# Altium footprint library 杂项库.PcbLib: 585 footprints (part 35 of 37)
Each footprint in its own frame and in the unit in brackets; x right, y up, seen from the top. Pads: shape width x height; smd on the part's side, far side on the other; paste and mask are expansions set on the pad; w line width, h text height; cw(c..) or ccw(c..) is an arc to the next point about the centre after c.
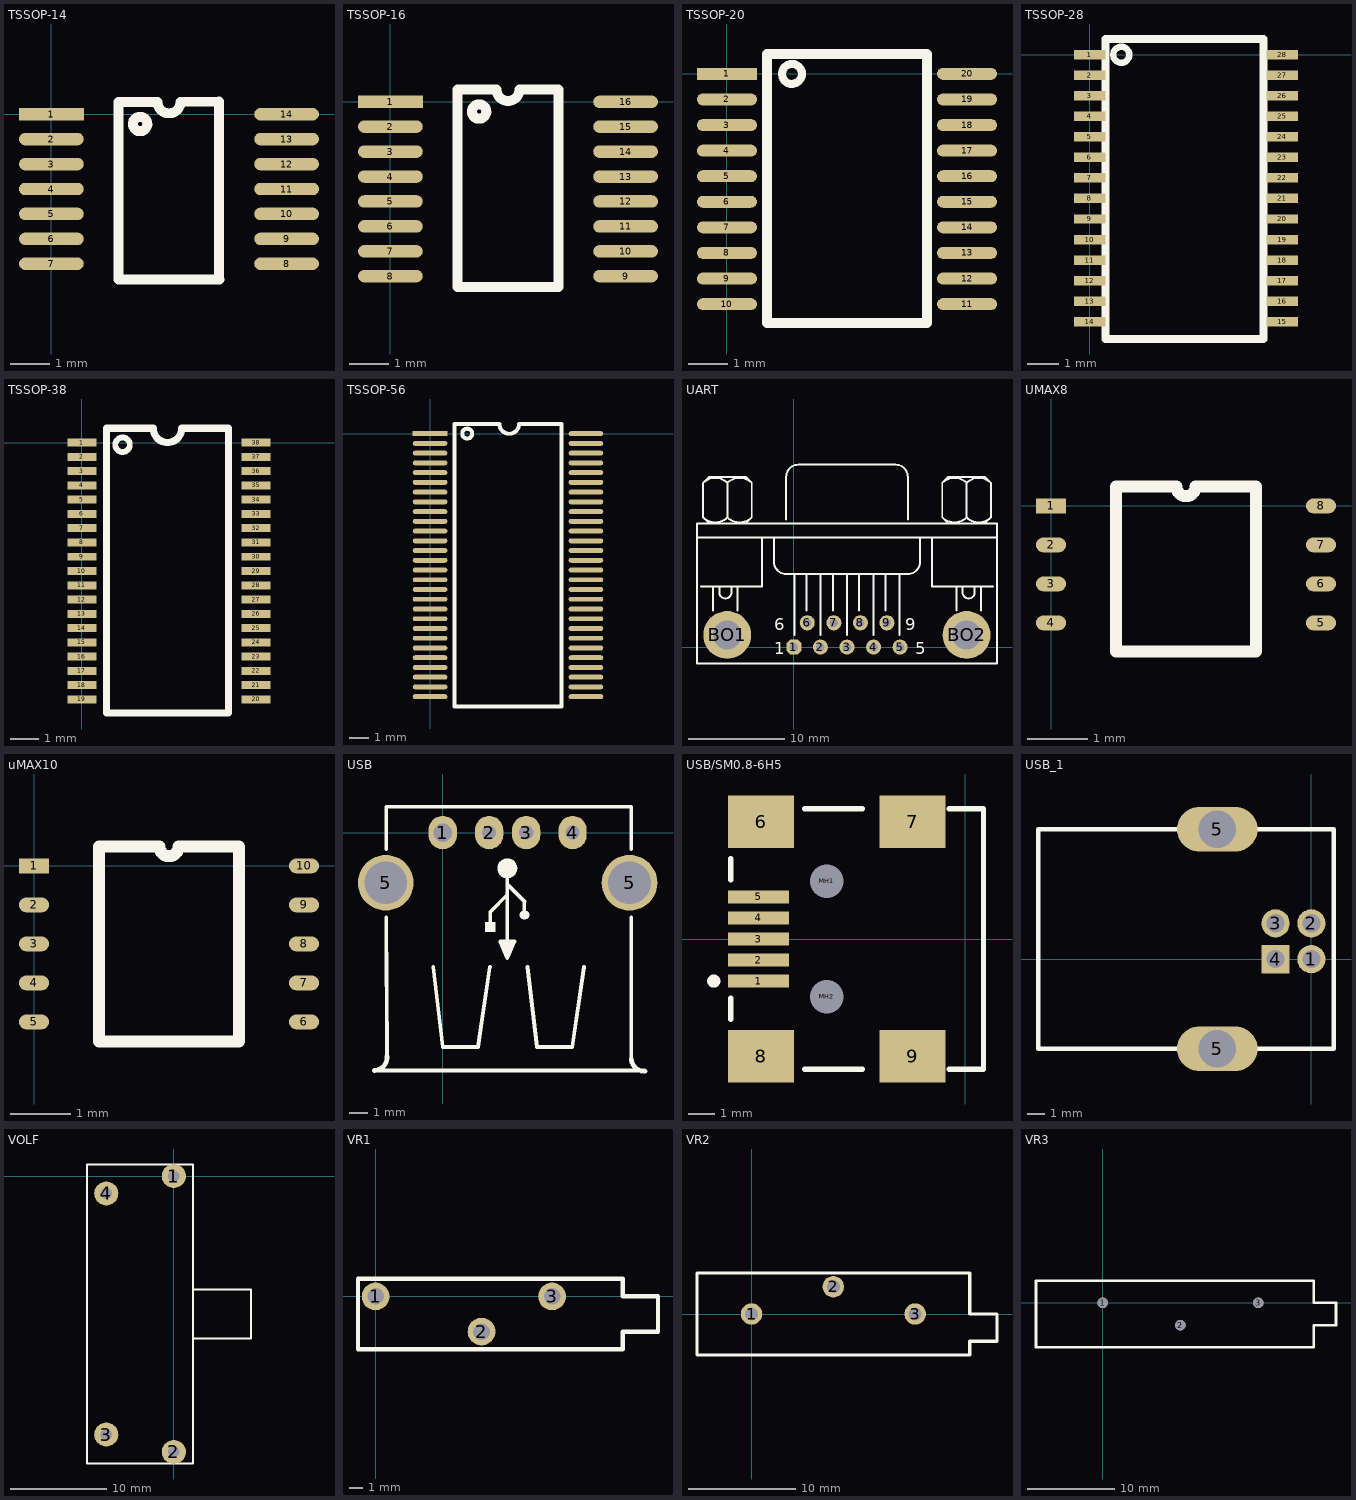
[diagram p34: the footprints below, top view; thin cyan lines are the x and y axes]

## TSSOP-14 [mil]
pads (14):
  rect 65x12.5 smd: 1(0,0)
  oval 65x12.5 smd: 2(0,-25) 3(0,-50) 4(0,-75) 5(0,-100) 6(0,-125) 7(0,-150) 8(236,-150) 9(236,-125) 10(236,-100) 11(236,-75) 12(236,-50) 13(236,-25) 14(236,0)
Top Overlay:
  lines w10: 89,-17 cw(c89,-9.79) 90.02,-16.93 ; 168,-166 168,13 129.54,12.5 cw(c118,12.5) 106.46,12.5 67.5,12.5 67.5,-166 168.5,-166

## TSSOP-16 [mil]
pads (16):
  rect 65x12.5 smd: 1(0,0)
  oval 65x12.5 smd: 2(0,-25) 3(0,-50) 4(0,-75) 5(0,-100) 6(0,-125) 7(0,-150) 8(0,-175) 9(236,-175) 10(236,-150) 11(236,-125) 12(236,-100) 13(236,-75) 14(236,-50) 15(236,-25) 16(236,0)
Top Overlay:
  lines w10: 89,-17 cw(c89,-9.79) 90.02,-16.93 ; 67.5,-186 168.5,-186 168.5,12.5 129.54,12.5 cw(c118,12.5) 106.46,12.5 67.5,12.5 67.5,-186

## TSSOP-20 [mil]
pads (20):
  rect 60x12 smd: 1(0,0)
  oval 60x12 smd: 2(0,-25.59) 3(0,-51.18) 4(0,-76.77) 5(0,-102.36) 6(0,-127.95) 7(0,-153.54) 8(0,-179.13) 9(0,-204.72) 10(0,-230.31) 11(240.16,-230.31) 12(240.16,-204.72) 13(240.16,-179.13) 14(240.16,-153.54) 15(240.16,-127.95) 16(240.16,-102.36) 17(240.16,-76.77) 18(240.16,-51.18) 19(240.16,-25.59) 20(240.16,0)
Top Overlay:
  circle w8: c65,0 r10
  lines w10: 40,-249.02 40,20 200,20 200,-249.02 40,-249.02

## TSSOP-28 [mm]
pads (28):
  rect 1x0.3 smd: 1(0,0) 2(0,-0.65) 3(0,-1.3) 4(0,-1.95) 5(0,-2.6) 6(0,-3.25) 7(0,-3.9) 8(0,-4.55) 9(0,-5.2) 10(0,-5.85) 11(0,-6.5) 12(0,-7.15) 13(0,-7.8) 14(0,-8.45) 15(6.1,-8.45) 16(6.1,-7.8) 17(6.1,-7.15) 18(6.1,-6.5) 19(6.1,-5.85) 20(6.1,-5.2) 21(6.1,-4.55) 22(6.1,-3.9) 23(6.1,-3.25) 24(6.1,-2.6) 25(6.1,-1.95) 26(6.1,-1.3) 27(6.1,-0.65) 28(6.1,0)
Top Overlay:
  circle w0.203: c1,0 r0.254
  lines w0.254: 0.5,-9 5.5,-9 5.5,0.5 0.5,0.5 0.5,-9

## TSSOP-38 [mil]
pads (38):
  rect 40x11 smd: 1(0,0) 2(0,-19.68) 3(0,-39.37) 4(0,-59.05) 5(0,-78.74) 6(0,-98.42) 7(0,-118.11) 8(0,-137.79) 9(0,-157.48) 10(0,-177.16) 11(0,-196.85) 12(0,-216.53) 13(0,-236.22) 14(0,-255.91) 15(0,-275.59) 16(0,-295.28) 17(0,-314.96) 18(0,-334.65) 19(0,-354.33) 20(240.16,-354.33) 21(240.16,-334.65) 22(240.16,-314.96) 23(240.16,-295.28) 24(240.16,-275.59) 25(240.16,-255.91) 26(240.16,-236.22) 27(240.16,-216.53) 28(240.16,-196.85) 29(240.16,-177.16) 30(240.16,-157.48) 31(240.16,-137.79) 32(240.16,-118.11) 33(240.16,-98.42) 34(240.16,-78.74) 35(240.16,-59.05) 36(240.16,-39.37) 37(240.16,-19.68) 38(240.16,0)
Top Overlay:
  circle w8: c56,-3 r10
  lines w10: 34,-373.03 202,-373.03 202,19.68 137.69,19.68 cw(c118,19.68) 98.31,19.69 34,19.68 34,-373.03

## TSSOP-56 [mil]
pads (56):
  rect 70x10 smd: 1(0,0)
  oval 70x10 smd: 2(0,-19.68) 3(0,-39.37) 4(0,-59.05) 5(0,-78.74) 6(0,-98.42) 7(0,-118.11) 8(0,-137.79) 9(0,-157.48) 10(0,-177.16) 11(0,-196.85) 12(0,-216.53) 13(0,-236.22) 14(0,-255.91) 15(0,-275.59) 16(0,-295.28) 17(0,-314.96) 18(0,-334.65) 19(0,-354.33) 20(0,-374.02) 21(0,-393.7) 22(0,-413.39) 23(0,-433.07) 24(0,-452.76) 25(0,-472.44) 26(0,-492.13) 27(0,-511.81) 28(0,-531.5) 29(314.96,-531.5) 30(314.96,-511.81) 31(314.96,-492.13) 32(314.96,-472.44) 33(314.96,-452.76) 34(314.96,-433.07) 35(314.96,-413.39) 36(314.96,-393.7) 37(314.96,-374.02) 38(314.96,-354.33) 39(314.96,-334.65) 40(314.96,-314.96) 41(314.96,-295.28) 42(314.96,-275.59) 43(314.96,-255.91) 44(314.96,-236.22) 45(314.96,-216.53) 46(314.96,-196.85) 47(314.96,-177.16) 48(314.96,-157.48) 49(314.96,-137.79) 50(314.96,-118.11) 51(314.96,-98.42) 52(314.96,-78.74) 53(314.96,-59.05) 54(314.96,-39.37) 55(314.96,-19.68) 56(314.96,0)
Top Overlay:
  circle w8: c75,0 r10
  lines w8: 49.21,-551.18 265.75,-551.18 265.75,19.68 180,19.68 cw(c160,19.68) 140,19.69 49.21,19.68 49.21,-551.18

## UART [mil]
pads (11):
  oct 62x62 hole 35: 1(0,0)
  round 62 hole 35: 2(109.17,0) 3(218.33,0) 4(327.5,0) 5(436.67,0) 6(55,100) 7(164.17,100) 8(273.33,100) 9(382.5,100)
  round 196.67 hole 118.33: BO1(-274.17,50) BO2(710,50)
Top Overlay:
  lines w8: -398.33,450 835,450 ; -381.67,250 -131.67,250 -131.67,450 ; -373.42,533.25 ccw(c-323.33,583.33) -273.25,533.25 ; -373.42,675.09 cw(c-323.33,625) -273.25,675.09 ; -348.33,508.33 -373.33,533.33 -373.33,675 -348.33,700 -198.33,700 -173.33,675 -173.33,533.33 -198.33,508.33 ; -331.67,150 -331.67,250 ; -306.67,250 -306.67,225 ccw(c-281.67,225) -256.67,225 -256.67,250 ; -273.42,533.25 ccw(c-223.33,583.33) -173.25,533.25 ; -273.42,675.09 cw(c-223.33,625) -173.25,675.09 ; -273.33,533.33 -273.33,675 ; -231.67,150 -231.67,250 ; -81.67,450 -81.67,350 ccw(c-31.67,350) -31.67,300 468.33,300 ccw(c468.33,350) 518.33,350 518.33,450 ; -31.67,525 -31.67,700 cw(c18.33,700) 18.33,750 418.33,750 cw(c418.33,700) 468.33,700 468.33,525 ; 1.67,50 1.67,300 ; 51.67,150 51.67,300 ; 110,50 110,300 ; 160,150 160,300 ; 218.33,50 218.33,300 ; 268.33,150 268.33,300 ; 326.67,50 326.67,300 ; 376.67,150 376.67,300 ; 435,50 435,300 ; 568.33,450 568.33,250 818.33,250 ; 609.91,533.25 ccw(c660,583.33) 710.09,533.25 ; 609.91,675.09 cw(c660,625) 710.09,675.09 ; 635,508.33 610,533.33 610,675 635,700 785,700 810,675 810,533.33 785,508.33 ; 668.33,150 668.33,250 ; 693.33,250 693.33,225 ccw(c718.33,225) 743.33,225 743.33,250 ; 709.91,533.25 ccw(c760,583.33) 810.09,533.25 ; 709.91,675.09 cw(c760,625) 810.09,675.09 ; 710,533.33 710,675 ; 768.33,150 768.33,250 ; -398.33,-66.67 -398.33,508.33 835,508.33 835,-66.67 -398.33,-66.67
  text "6" at -81.67,70 h50
  text "1" at -81.67,-30 h50
  text "5" at 498.33,-30 h50
  text "9" at 458.33,70 h50

## UMAX8 [mm]
pads (8):
  rect 0.5x0.25 smd: 1(0,0)
  oval 0.5x0.25 smd: 2(0,-0.65) 3(0,-1.3) 4(0,-1.95) 5(4.5,-1.95) 6(4.5,-1.3) 7(4.5,-0.65) 8(4.5,0)
Top Overlay:
  lines w0.2: 1.085,-2.425 3.415,-2.425 3.415,0.325 2.412,0.325 cw(c2.25,0.325) 2.087,0.325 1.085,0.325 1.085,-2.425

## uMAX10 [mm]
pads (10):
  rect 0.5x0.25 smd: 1(0,0)
  oval 0.5x0.25 smd: 2(0,-0.65) 3(0,-1.3) 4(0,-1.95) 5(0,-2.6) 6(4.5,-2.6) 7(4.5,-1.95) 8(4.5,-1.3) 9(4.5,-0.65) 10(4.5,0)
Top Overlay:
  lines w0.2: 1.085,-2.925 3.415,-2.925 3.415,0.325 2.412,0.325 cw(c2.25,0.325) 2.087,0.325 1.085,0.325 1.085,-2.925

## USB [mm]
pads (6):
  oval 1.524x1.8 hole 1: 1(0,0)
  oval 1.524x1.8 hole 0.762: 2(2.5,0) 3(4.5,0) 4(7,0)
  round 3 hole 2.3: 5(-3.07,-2.71) 5(10.07,-2.71)
Top Overlay:
  circle w0.508: c3.48,-1.93 r0.284
  rectangle: 2.286,-5.359 2.845,-4.826
  lines w0.203: -3.683,-12.827 10.876,-12.827 ; -3.048,-4.572 -3.002,-12.065 ; -3.048,-0.889 -3.048,1.397 10.16,1.397 10.16,-0.889 ; -0.508,-7.239 0,-11.557 1.905,-11.557 2.54,-7.239 ; 2.565,-4.851 2.565,-4.267 3.48,-3.353 ; 3.48,-3.835 3.48,-3.81 ; 3.48,-1.93 3.48,-6.756 ; 3.487,-2.801 4.401,-3.715 ; 4.394,-4.216 4.394,-3.734 ; 4.572,-7.239 5.08,-11.557 6.985,-11.557 7.62,-7.239 ; 10.16,-12.192 10.16,-4.572 ; 3.48,-6.756 3.861,-5.867 3.099,-5.867 3.48,-6.756
  lines w0.254: -3.683,-12.827 ccw(c-3.724,-12.105) -3.002,-12.065 ; 10.16,-12.192 ccw(c10.882,-12.152) 10.922,-12.873
  lines w0.508: 3.48,-6.375 3.48,-5.994 ; 4.394,-4.445 4.42,-4.445

## USB/SM0.8-6H5 [mm]
pads (11):
  rect 2.3x0.5 smd: 1(-7.85,-1.6) 2(-7.85,-0.8) 3(-7.85,0) 4(-7.85,0.8) 5(-7.85,1.6)
  rect 2.5x2 smd: 6(-7.75,4.45) 7(-1.996,4.45) 8(-7.75,-4.45) 9(-1.996,-4.45)
  round 0.6 hole 1.27 unplated: MH1(-5.25,2.2) MH2(-5.25,-2.2)
Top Overlay:
  circle w0.25: c-9.55,-1.6 r0.125
  lines w0.2: -8.9,-3.05 -8.9,-2.25 ; -8.9,2.25 -8.9,3.05 ; -6.1,-4.95 -3.9,-4.95 ; -6.1,4.95 -3.9,4.95 ; -0.6,-4.95 0.7,-4.95 0.7,4.95 -0.6,4.95

## USB_1 [mm]
pads (6):
  round 1.575 hole 1.016: 1(0,0) 2(0,2) 3(-2,2)
  rect 1.575x1.575 hole 1.016: 4(-2,0)
  oval 4.5x2.5 hole 2.1: 5(-5.25,-5) 5(-5.25,7.25)
Top Overlay:
  lines w0.254: -15.25,-5 -15.25,7.25 1.25,7.25 1.25,-5 -15.25,-5

## VOLF [mm]
pads (4):
  round 2.5 hole 1.2: 1(0,0) 2(0,-28.6) 3(-7,-26.8) 4(-7,-1.8)
Top Overlay:
  lines w0.2: 2.16,-16.84 8.002,-16.84 8.002,-11.76 2.16,-11.76 ; -9,-29.8 2,-29.8 2,1.2 -9,1.2 -9,-29.8

## VR1 [mm]
pads (3):
  round 2 hole 1.2: 1(0,0) 2(7.62,-2.54) 3(12.7,0)
Top Overlay:
  lines w0.305: -1.27,-3.81 -1.27,1.27 17.78,1.27 17.78,0 20.32,0 20.32,-2.54 17.78,-2.54 17.78,-3.81 -1.27,-3.81

## VR2 [mm]
pads (3):
  round 2 hole 1.2: 1(0,0) 2(7.62,2.54) 3(15.24,0)
Top Overlay:
  lines w0.305: -5.08,-3.81 -5.08,3.81 20.32,3.81 20.32,0 22.86,0 22.86,-2.54 20.32,-2.54 20.32,-3.81 -5.08,-3.81

## VR3 [mm]
pads (3):
  round 1.2 hole 1.2: 1(0,0) 2(8.89,-2.54) 3(17.78,0)
Top Overlay:
  lines w0.305: -7.62,-5.08 -7.62,2.54 24.13,2.54 24.13,0 26.67,0 26.67,-2.54 24.13,-2.54 24.13,-5.08 -7.62,-5.08